# EAGLE library part CF_CARD_CONNECTOR (library Deegou_Connector)
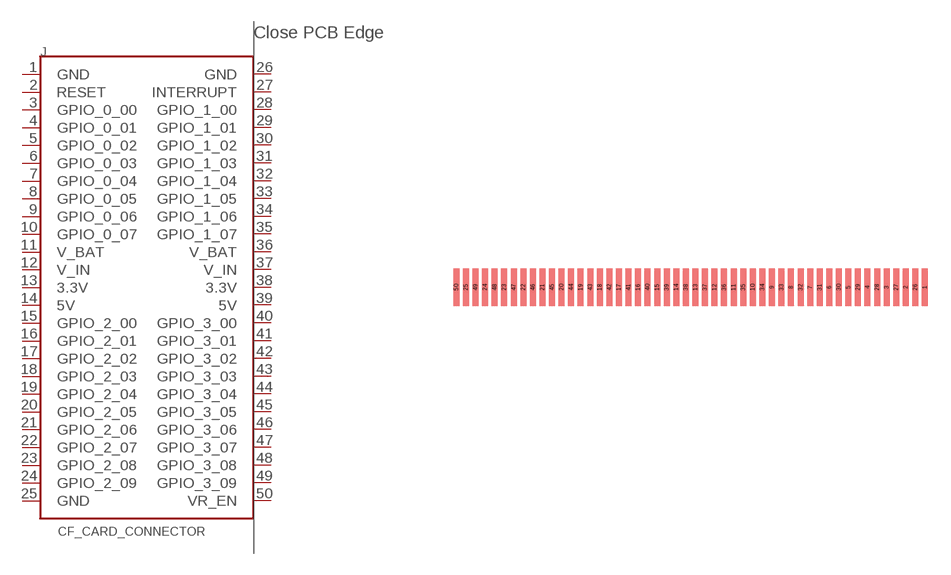
[diagram p50: symbol with the pads of CF_CARD_CONNECTOR; footprint CF_CARD_CONNECTOR]

Designator prefix J

## CF_CARD_CONNECTOR  [CF_CARD_CONNECTOR]
1  GND
2  RESET
3  GPIO_0_00
4  GPIO_0_01
5  GPIO_0_02
6  GPIO_0_03
7  GPIO_0_04
8  GPIO_0_05
9  GPIO_0_06
10  GPIO_0_07
11  V_BAT
12  V_IN
13  3.3V
14  5V
15  GPIO_2_00
16  GPIO_2_01
17  GPIO_2_02
18  GPIO_2_03
19  GPIO_2_04
20  GPIO_2_05
21  GPIO_2_06
22  GPIO_2_07
23  GPIO_2_08
24  GPIO_2_09
25  GND
26  GND
27  INTERRUPT
28  GPIO_1_00
29  GPIO_1_01
30  GPIO_1_02
31  GPIO_1_03
32  GPIO_1_04
33  GPIO_1_05
34  GPIO_1_06
35  GPIO_1_07
36  V_BAT
37  V_IN
38  3.3V
39  5V
40  GPIO_3_00
41  GPIO_3_01
42  GPIO_3_02
43  GPIO_3_03
44  GPIO_3_04
45  GPIO_3_05
46  GPIO_3_06
47  GPIO_3_07
48  GPIO_3_08
49  GPIO_3_09
50  VR_EN

## Footprint CF_CARD_CONNECTOR (pad centres in mm)
smd 0.4 x 2.5: 1 15.557,0; 2 14.287,0; 3 13.018,0; 4 11.748,0; 5 10.477,0; 6 9.207,0; 7 7.938,0; 8 6.668,0; 9 5.397,0; 10 4.128,0; 11 2.857,0; 12 1.587,0; 13 0.318,0; 14 -0.953,0; 15 -2.223,0; 16 -3.493,0; 17 -4.763,0; 18 -6.032,0; 19 -7.303,0; 20 -8.572,0; 21 -9.842,0; 22 -11.113,0; 23 -12.383,0; 24 -13.652,0; 25 -14.922,0; 26 14.922,0; 27 13.652,0; 28 12.383,0; 29 11.113,0; 30 9.842,0; 31 8.572,0; 32 7.303,0; 33 6.032,0; 34 4.763,0; 35 3.493,0; 36 2.223,0; 37 0.953,0; 38 -0.318,0; 39 -1.587,0; 40 -2.857,0; 41 -4.128,0; 42 -5.397,0; 43 -6.668,0; 44 -7.938,0; 45 -9.207,0; 46 -10.477,0; 47 -11.748,0; 48 -13.018,0; 49 -14.287,0; 50 -15.557,0